# EAGLE library part AS-ITM-00368 (library tinycircuits)
NEXT GEN DRV260X LRA/ERM DRIVER http://www.ti.com/lit/ds/symlink/drv2605l.pdf
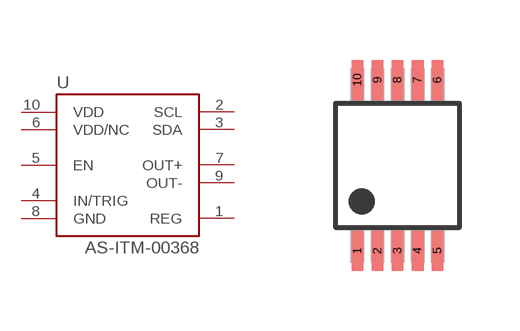
[diagram p149: symbol with the pads of DGS(S-PDSO-G10); footprint DGS(S-PDSO-G10)]

Designator prefix U

## AS-ITM-00368 (PARTNO: AS-ITM-00368; VALUE: DRV2605)  [DGS(S-PDSO-G10)]
1  REG
2  SCL
3  SDA
4  IN/TRIG
5  EN
6  VDD/NC
7  OUT+
8  GND
9  OUT-
10  VDD

## Footprint DGS(S-PDSO-G10) (pad centres in mm)
smd 0.3 x 1: 1 -1,-2.14; 2 -0.5,-2.14; 3 0,-2.14; 4 0.5,-2.14; 5 1,-2.14; 6 1,2.14; 7 0.5,2.14; 8 0,2.14; 9 -0.5,2.14; 10 -1,2.14